# Altium footprint library IS-IG-1-G2.PcbLib: 1 footprints
Each footprint in its own frame and in the unit in brackets; x right, y up, seen from the top. Pads: shape width x height; smd on the part's side, far side on the other; paste and mask are expansions set on the pad; w line width, h text height; cw(c..) or ccw(c..) is an arc to the next point about the centre after c.
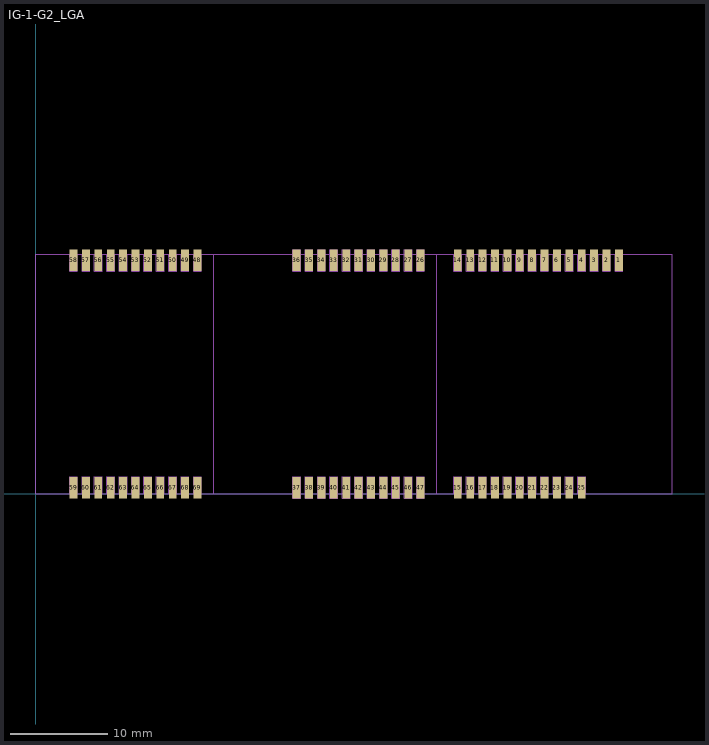
[diagram p0: the footprint, top view; thin cyan lines are the x and y axes]

## IG-1-G2_LGA [mm] "IMX multi-frequency RTK-GNSS Module"
height 5.93
pads (69):
  rect 0.8x2.2 smd: 1(59.743,23.9) 2(58.473,23.9) 3(57.203,23.9) 4(55.933,23.9) 5(54.663,23.9) 6(53.393,23.9) 7(52.123,23.9) 8(50.853,23.9) 9(49.583,23.9) 10(48.313,23.9) 11(47.043,23.9) 12(45.773,23.9) 13(44.503,23.9) 14(43.233,23.9) 15(43.233,0.6) 16(44.503,0.6) 17(45.773,0.6) 18(47.043,0.6) 19(48.313,0.6) 20(49.583,0.6) 21(50.853,0.6) 22(52.123,0.6) 23(53.393,0.6) 24(54.663,0.6) 25(55.933,0.6) 26(39.423,23.9) 27(38.153,23.9) 28(36.883,23.9) 29(35.613,23.9) 30(34.343,23.9) 31(33.073,23.9) 32(31.803,23.9) 33(30.533,23.9) 34(29.263,23.9) 35(27.993,23.9) 36(26.723,23.9) 37(26.723,0.6) 38(27.993,0.6) 39(29.263,0.6) 40(30.533,0.6) 41(31.803,0.6) 42(33.073,0.6) 43(34.343,0.6) 44(35.613,0.6) 45(36.883,0.6) 46(38.153,0.6) 47(39.423,0.6) 48(16.563,23.9) 49(15.293,23.9) 50(14.023,23.9) 51(12.753,23.9) 52(11.483,23.9) 53(10.213,23.9) 54(8.943,23.9) 55(7.673,23.9) 56(6.403,23.9) 57(5.133,23.9) 58(3.863,23.9) 59(3.863,0.6) 60(5.133,0.6) 61(6.403,0.6) 62(7.673,0.6) 63(8.943,0.6) 64(10.213,0.6) 65(11.483,0.6) 66(12.753,0.6) 67(14.023,0.6) 68(15.293,0.6) 69(16.563,0.6)
Mechanical 1:
  lines w0.025: 26.323,-0.499 27.123,-0.499 27.123,1.7 26.323,1.7 26.323,-0.499 ; 26.323,22.801 27.123,22.801 27.123,25 26.323,25 26.323,22.801 ; 27.593,-0.499 28.393,-0.499 28.393,1.7 27.593,1.7 27.593,-0.499 ; 27.593,22.801 28.393,22.801 28.393,25 27.593,25 27.593,22.801 ; 28.863,-0.499 29.663,-0.499 29.663,1.7 28.863,1.7 28.863,-0.499 ; 28.863,22.801 29.663,22.801 29.663,25 28.863,25 28.863,22.801 ; 30.133,-0.499 30.933,-0.499 30.933,1.7 30.133,1.7 30.133,-0.499 ; 30.133,22.801 30.933,22.801 30.933,25 30.133,25 30.133,22.801 ; 31.403,-0.499 32.203,-0.499 32.203,1.7 31.403,1.7 31.403,-0.499 ; 31.403,22.801 32.203,22.801 32.203,25 31.403,25 31.403,22.801 ; 32.673,-0.499 33.473,-0.499 33.473,1.7 32.673,1.7 32.673,-0.499 ; 32.673,22.801 33.473,22.801 33.473,25 32.673,25 32.673,22.801 ; 33.943,-0.499 34.743,-0.499 34.743,1.7 33.943,1.7 33.943,-0.499 ; 33.943,22.801 34.743,22.801 34.743,25 33.943,25 33.943,22.801 ; 35.213,-0.499 36.013,-0.499 36.013,1.7 35.213,1.7 35.213,-0.499 ; 35.213,22.801 36.013,22.801 36.013,25 35.213,25 35.213,22.801 ; 36.483,-0.499 37.283,-0.499 37.283,1.7 36.483,1.7 36.483,-0.499 ; 36.483,22.801 37.283,22.801 37.283,25 36.483,25 36.483,22.801 ; 37.753,-0.499 38.553,-0.499 38.553,1.7 37.753,1.7 37.753,-0.499 ; 37.753,22.801 38.553,22.801 38.553,25 37.753,25 37.753,22.801 ; 39.023,-0.499 39.823,-0.499 39.823,1.7 39.023,1.7 39.023,-0.499 ; 39.023,22.801 39.823,22.801 39.823,25 39.023,25 39.023,22.801
Mechanical 13:
  lines w0.127: 18.233,0 18.233,24.5 ; 41.093,0 41.093,24.5 ; 0,0 65.2,0 65.2,24.5 0,24.5 0,0
Mechanical 16:
  drawing of 426 lines, arcs and shapes, not listed
3D body "IG-1.0.3.step": height 5.95, standoff 0.01, extent 0,-1.188 65.2,24.5